# Altium schematic symbol library week1.SchLib: 6 symbols
Pins are listed as number, name and electrical type; pins without a type are passive.

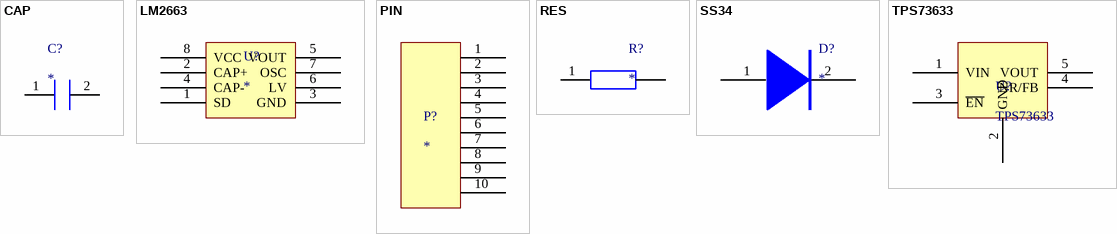
[diagram p0: symbols CAP to TPS73633]

## CAP
designator C?
电容
pins: 1, 2

## LM2663
designator U?
IC
pins: 1 SD, 2 CAP+, 3 GND, 4 CAP-, 5 VOUT, 6 LV, 7 OSC, 8 VCC

## PIN
designator P?
排针
pins: 1, 2, 3, 4, 5, 6, 7, 8, 9, 10

## RES
designator R?
电阻
pins: 1, 2

## SS34
designator D?
二极管
pins: 1, 2

## TPS73633
designator U?
IC
pins: 1 VIN, 2 GND, 3 ~{EN}, 4 NR/FB, 5 VOUT